# Altium schematic symbol library Sensor_Magnetic.SchLib: 49 symbols
Pins are listed as number, name and electrical type; pins without a type are passive.

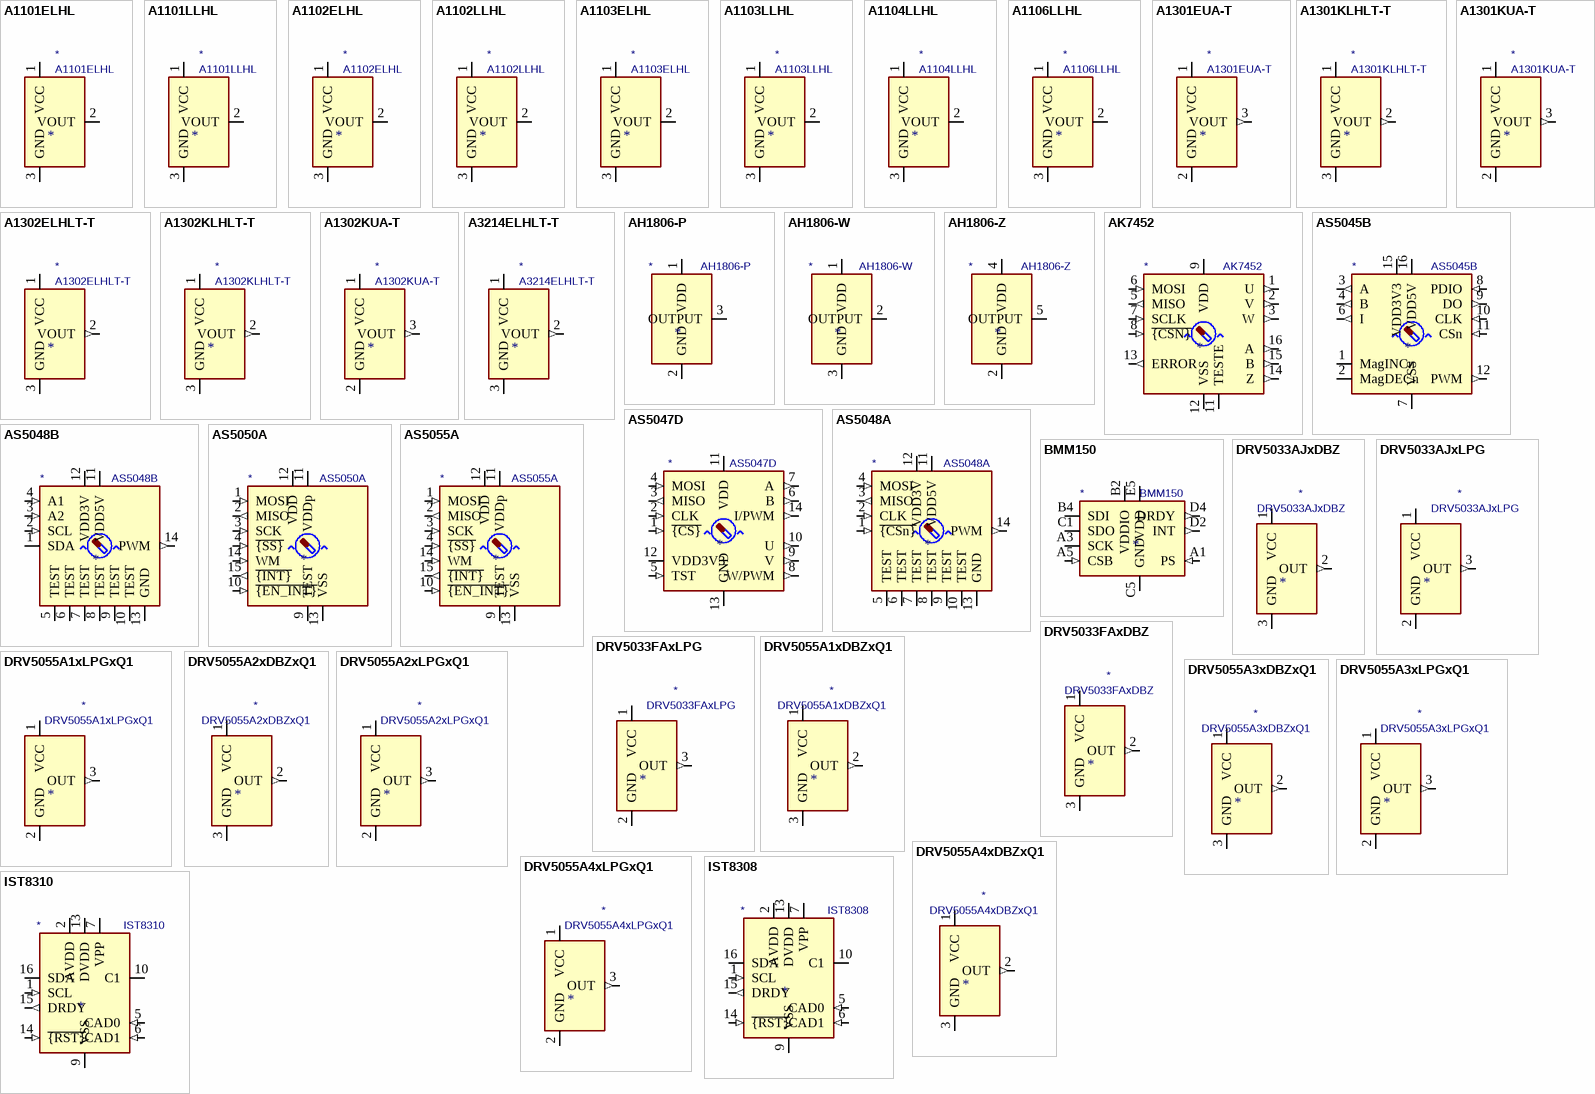
[diagram p0: symbols A1101ELHL to IST8310]

## A1101ELHL
designator *  value A1101ELHL
ki_keywords: hall switch; ki_description: Hall effect switch, unipolar, Bop=100G, Brp=45G, -40C to +85C, SOT-23W; ki_fp_filters: SOT?23*; Footprint: Package_TO_SOT_SMD:SOT-23W; Supplier: https://www.allegromicro.com/-/media/files/datasheets/a110x-datasheet.ashx
footprint SOT-23W
pins: 1 VCC (power), 2 VOUT (oc), 3 GND (power)

## A1101LLHL
designator *  value A1101LLHL
ki_keywords: hall switch; ki_description: Hall effect switch, unipolar, Bop=100G, Brp=45G, -40C to +125C, SOT-23W; ki_fp_filters: SOT?23*; Footprint: Package_TO_SOT_SMD:SOT-23W; Supplier: https://www.allegromicro.com/-/media/files/datasheets/a110x-datasheet.ashx
footprint SOT-23W
pins: 1 VCC (power), 2 VOUT (oc), 3 GND (power)

## A1102ELHL
designator *  value A1102ELHL
ki_keywords: hall switch; ki_description: Hall effect switch, unipolar, Bop=180G, Brp=125G, -40C to +85C, SOT-23W; ki_fp_filters: SOT?23*; Footprint: Package_TO_SOT_SMD:SOT-23W; Supplier: https://www.allegromicro.com/-/media/files/datasheets/a110x-datasheet.ashx
footprint SOT-23W
pins: 1 VCC (power), 2 VOUT (oc), 3 GND (power)

## A1102LLHL
designator *  value A1102LLHL
ki_keywords: hall switch; ki_description: Hall effect switch, unipolar, Bop=180G, Brp=125G, -40C to +125C, SOT-23W; ki_fp_filters: SOT?23*; Footprint: Package_TO_SOT_SMD:SOT-23W; Supplier: https://www.allegromicro.com/-/media/files/datasheets/a110x-datasheet.ashx
footprint SOT-23W
pins: 1 VCC (power), 2 VOUT (oc), 3 GND (power)

## A1103ELHL
designator *  value A1103ELHL
ki_keywords: hall switch; ki_description: Hall effect switch, unipolar, Bop=280G, Brp=225G, -40C to +85C, SOT-23W; ki_fp_filters: SOT?23*; Footprint: Package_TO_SOT_SMD:SOT-23W; Supplier: https://www.allegromicro.com/-/media/files/datasheets/a110x-datasheet.ashx
footprint SOT-23W
pins: 1 VCC (power), 2 VOUT (oc), 3 GND (power)

## A1103LLHL
designator *  value A1103LLHL
ki_keywords: hall switch; ki_description: Hall effect switch, unipolar, Bop=280G, Brp=225G, -40C to +125C, SOT-23W; ki_fp_filters: SOT?23*; Footprint: Package_TO_SOT_SMD:SOT-23W; Supplier: https://www.allegromicro.com/-/media/files/datasheets/a110x-datasheet.ashx
footprint SOT-23W
pins: 1 VCC (power), 2 VOUT (oc), 3 GND (power)

## A1104LLHL
designator *  value A1104LLHL
ki_keywords: hall switch; ki_description: Hall effect switch, unipolar, Bop=240G, Brp=200G, -40C to +125C, SOT-23W; ki_fp_filters: SOT?23*; Footprint: Package_TO_SOT_SMD:SOT-23W; Supplier: https://www.allegromicro.com/-/media/files/datasheets/a110x-datasheet.ashx
footprint SOT-23W
pins: 1 VCC (power), 2 VOUT (oc), 3 GND (power)

## A1106LLHL
designator *  value A1106LLHL
ki_keywords: hall switch; ki_description: Hall effect switch, unipolar, Bop=340G, Brp=240G, -40C to +125C, SOT-23W; ki_fp_filters: SOT?23*; Footprint: Package_TO_SOT_SMD:SOT-23W; Supplier: https://www.allegromicro.com/-/media/files/datasheets/a110x-datasheet.ashx
footprint SOT-23W
pins: 1 VCC (power), 2 VOUT (oc), 3 GND (power)

## A1301EUA-T
designator *  value A1301EUA-T
ki_keywords: hall switch; ki_description: Linear Hall Effect Sensor, SIP 3pin; Supplier: http://www.allegromicro.com/~/media/Files/Datasheets/A1301-2-Datasheet.ashx
pins: 1 VCC (power), 2 GND (power), 3 VOUT (out)

## A1301KLHLT-T
designator *  value A1301KLHLT-T
ki_keywords: hall switch; ki_description: Linear Hall Effect Sensor, SOT-23W; ki_fp_filters: SOT?23W*; Footprint: Package_TO_SOT_SMD:SOT-23W; Supplier: http://www.allegromicro.com/~/media/Files/Datasheets/A1301-2-Datasheet.ashx
footprint SOT-23W
pins: 1 VCC (power), 2 VOUT (out), 3 GND (power)

## A1301KUA-T
designator *  value A1301KUA-T
ki_keywords: hall switch; ki_description: Linear Hall Effect Sensor, SIP 3pin; Supplier: http://www.allegromicro.com/~/media/Files/Datasheets/A1301-2-Datasheet.ashx
pins: 1 VCC (power), 2 GND (power), 3 VOUT (out)

## A1302ELHLT-T
designator *  value A1302ELHLT-T
ki_keywords: hall switch; ki_description: Linear Hall Effect Sensor, SOT-23W; ki_fp_filters: SOT?23W*; Footprint: Package_TO_SOT_SMD:SOT-23W; Supplier: http://www.allegromicro.com/~/media/Files/Datasheets/A1301-2-Datasheet.ashx
footprint SOT-23W
pins: 1 VCC (power), 2 VOUT (out), 3 GND (power)

## A1302KLHLT-T
designator *  value A1302KLHLT-T
ki_keywords: hall switch; ki_description: Linear Hall Effect Sensor, SOT-23W; ki_fp_filters: SOT?23W*; Footprint: Package_TO_SOT_SMD:SOT-23W; Supplier: http://www.allegromicro.com/~/media/Files/Datasheets/A1301-2-Datasheet.ashx
footprint SOT-23W
pins: 1 VCC (power), 2 VOUT (out), 3 GND (power)

## A1302KUA-T
designator *  value A1302KUA-T
ki_keywords: hall switch; ki_description: Linear Hall Effect Sensor, SIP 3pin; Supplier: http://www.allegromicro.com/~/media/Files/Datasheets/A1301-2-Datasheet.ashx
pins: 1 VCC (power), 2 GND (power), 3 VOUT (out)

## A3214ELHLT-T
designator *  value A3214ELHLT-T
ki_keywords: hall switch; ki_description: Linear Hall Effect Sensor, SOT-23W; ki_fp_filters: SOT?23W*; Footprint: Package_TO_SOT_SMD:SOT-23W; Supplier: http://www.allegromicro.com/~/media/Files/Datasheets/A3213-4-Datasheet.ashx
footprint SOT-23W
pins: 1 VCC (power), 2 VOUT (out), 3 GND (power)

## AH1806-P
designator *  value AH1806-P
ki_keywords: hall switch; ki_description: High Sensitivity Micropower Omnipolar Hall-Effect Switch, SIP-3; ki_fp_filters: Diodes*SIP*4.1x1.5mm*P1.27mm* Diodes*SIP*4.1x1.5mm*P2.65mm*; Supplier: https://www.diodes.com/assets/Datasheets/AH1806.pdf
pins: 1 VDD (power), 2 GND (power), 3 OUTPUT (oc)

## AH1806-W
designator *  value AH1806-W
ki_keywords: hall switch; ki_description: High Sensitivity Micropower Omnipolar Hall-Effect Switch, SC-59; ki_fp_filters: SC?59*; Footprint: Package_TO_SOT_SMD:SC-59; Supplier: https://www.diodes.com/assets/Datasheets/AH1806.pdf
footprint SC-59
pins: 1 VDD (power), 2 OUTPUT (oc), 3 GND (power)

## AH1806-Z
designator *  value AH1806-Z
ki_keywords: hall switch; ki_description: High Sensitivity Micropower Omnipolar Hall-Effect Switch, SOT-553; ki_fp_filters: SOT*553*; Footprint: Package_TO_SOT_SMD:SOT-553; Supplier: https://www.diodes.com/assets/Datasheets/AH1806.pdf
footprint SOT-553
pins: 1 NC (in) hidden, 2 GND (power), 3 NC (in) hidden, 4 VDD (power), 5 OUTPUT (oc)

## AK7452
designator *  value AK7452
ki_keywords: sensor magnetic hall position rotation spi; ki_description: Magnetic rotary angle sensor, 14-bit, SPI interface, ABZ, UVW, TSSOP-16; ki_fp_filters: TSSOP*4.4x5mm*P0.65mm*; Footprint: Package_SO:TSSOP-16_4.4x5mm_P0.65mm; Supplier: https://www.akm.com/akm/en/file/datasheet/AK7452.pdf
footprint TSSOP-16_4.4x5mm_P0.65mm
pins: 1 U (out), 2 V (out), 3 W (out), 4 NC (in) hidden, 5 MISO (out), 6 MOSI (in), 7 SCLK (in), 8 ~{{CSN}} (in), 9 VDD (power), 10 NC (in) hidden, 11 TESTE, 12 VSS (power), 13 ERROR (out), 14 Z (out), 15 B (out), 16 A (out)

## AS5045B
designator *  value AS5045B
ki_keywords: Magnetic Hall Encoder; ki_description: Magnetic Position Sensor, 12-bit, PWM Output, ABI Output, SPI Interface, SSOP-16; ki_fp_filters: SSOP*5.3x6.2mm*P0.65mm*; Footprint: Package_SO:SSOP-16_5.3x6.2mm_P0.65mm; Supplier: https://ams.com/documents/20143/36005/AS5045B_DS000397_2-00.pdf
footprint SSOP-16_5.3x6.2mm_P0.65mm
pins: 1 MagINCn (oc), 2 MagDECn (oc), 3 A (out), 4 B (out), 5 NC (in) hidden, 6 I (out), 7 VSS (power), 8 PDIO (in), 9 DO (out), 10 CLK (in), 11 CSn (in), 12 PWM (out), 13 NC (in) hidden, 14 NC (in) hidden, 15 VDD3V3 (power), 16 VDD5V (power)

## AS5047D
designator *  value AS5047D
ki_keywords: Magnetic Hall Sensor; ki_description: On-Axis Magnetic Position Sensor, 14-bit, PWM Output, ABI Output, UVW Output, SPI Interface, TSSOP-14; ki_fp_filters: TSSOP*4.4x5mm*P0.65mm*; Footprint: Package_SO:TSSOP-14_4.4x5mm_P0.65mm; Supplier: https://ams.com/documents/20143/36005/AS5047D_DS000394_2-00.pdf
footprint TSSOP-14_4.4x5mm_P0.65mm
pins: 1 ~{{CS}} (in), 2 CLK (in), 3 MISO (out), 4 MOSI (in), 5 TST (in), 6 B (out), 7 A (out), 8 W/PWM (out), 9 V (out), 10 U (out), 11 VDD (power), 12 VDD3V3 (power), 13 GND (power), 14 I/PWM (out)

## AS5048A
designator *  value AS5048A
ki_keywords: sensor magnetic hall position rotation spi; ki_description: Magnetic position sensor, 14-bit, PWM output, SPI Interface, TSSOP-14; ki_fp_filters: TSSOP*4.4x5mm*P0.65mm*; Footprint: Package_SO:TSSOP-14_4.4x5mm_P0.65mm; Supplier: https://ams.com/documents/20143/36005/AS5048_DS000298_4-00.pdf
footprint TSSOP-14_4.4x5mm_P0.65mm
pins: 1 ~{{CSn}} (in), 2 CLK (in), 3 MISO (out), 4 MOSI (in), 5 TEST, 6 TEST, 7 TEST, 8 TEST, 9 TEST, 10 TEST, 11 VDD5V (power), 12 VDD3V (power), 13 GND (power), 14 PWM (out)

## AS5048B
designator *  value AS5048B
ki_keywords: sensor magnetic hall position rotation i2c; ki_description: Magnetic position sensor, 14-bit, PWM output, I2C Interface, TSSOP-14; ki_fp_filters: TSSOP*4.4x5mm*P0.65mm*; Footprint: Package_SO:TSSOP-14_4.4x5mm_P0.65mm; Supplier: https://ams.com/documents/20143/36005/AS5048_DS000298_4-00.pdf
footprint TSSOP-14_4.4x5mm_P0.65mm
pins: 1 SDA (io), 2 SCL (in), 3 A2 (in), 4 A1 (in), 5 TEST, 6 TEST, 7 TEST, 8 TEST, 9 TEST, 10 TEST, 11 VDD5V (power), 12 VDD3V (power), 13 GND (power), 14 PWM (out)

## AS5050A
designator *  value AS5050A
ki_keywords: sensor magnetic hall position rotation spi; ki_description: Magnetic position sensor, 10-bit, SPI interface, QFN-16; ki_fp_filters: QFN*1EP*4x4mm*P0.65mm*PullBack*; Footprint: Package_DFN_QFN:QFN-16-1EP_4x4mm_P0.65mm_EP2.7x2.7mm_PullBack; Supplier: https://ams.com/documents/20143/36005/AS5055A_DS000304_2-00.pdf
footprint QFN-16-1EP_4x4mm_P0.65mm_EP2.7x2.7mm_PullBack
pins: 1 MOSI (in), 2 MISO (out), 3 SCK (in), 4 ~{{SS}} (in), 5 NC (in) hidden, 6 NC (in) hidden, 7 NC (in) hidden, 8 NC (in) hidden, 9 TEST, 10 ~{{EN_INT}} (in), 11 VDDp (power), 12 VDD (power), 13 VSS (power), 14 WM (in), 15 ~{{INT}} (out), 16 NC (in) hidden, 17 NC (in) hidden

## AS5055A
designator *  value AS5055A
ki_keywords: sensor magnetic hall position rotation spi; ki_description: Magnetic position sensor, 12-bit, SPI interface, QFN-16; ki_fp_filters: QFN*1EP*4x4mm*P0.65mm*PullBack*; Footprint: Package_DFN_QFN:QFN-16-1EP_4x4mm_P0.65mm_EP2.7x2.7mm_PullBack; Supplier: https://ams.com/documents/20143/36005/AS5055A_DS000304_2-00.pdf
footprint QFN-16-1EP_4x4mm_P0.65mm_EP2.7x2.7mm_PullBack
pins: 1 MOSI (in), 2 MISO (out), 3 SCK (in), 4 ~{{SS}} (in), 5 NC (in) hidden, 6 NC (in) hidden, 7 NC (in) hidden, 8 NC (in) hidden, 9 TEST, 10 ~{{EN_INT}} (in), 11 VDDp (power), 12 VDD (power), 13 VSS (power), 14 WM (in), 15 ~{{INT}} (out), 16 NC (in) hidden, 17 NC (in) hidden

## BMM150
designator *  value BMM150
ki_keywords: BOSH Geomagnetic Sensor; ki_description: Geomagnetic Sensor, WLCSP-12; ki_fp_filters: WLCSP*1.56x1.56mm*P0.4mm*; Footprint: Package_CSP:WLCSP-12_1.56x1.56mm_P0.4mm; Supplier: https://www.mouser.com/datasheet/2/783/BST-BMM150-DS001-01-786480.pdf
footprint WLCSP-12_1.56x1.56mm_P0.4mm
pins: A1 PS (in), A3 SCK (io), A5 CSB (in), B2 VDDIO (power), B4 SDI (io), C1 SDO (io), C5 GND (power), D2 INT (out), D4 DRDY (out), E1 GND hidden, E3 GND hidden, E5 VDD (power)

## DRV5033AJxDBZ
designator *  value DRV5033AJxDBZ
ki_keywords: Digital Omnipolar Switch Hall Effect Sensor; ki_description: ±6.9 / ±3.5 mT, 20-kHz, 2-38V, SOT-23; ki_fp_filters: SOT?23*; Footprint: Package_TO_SOT_SMD:SOT-23; Supplier: https://www.ti.com/lit/ds/symlink/drv5033.pdf
footprint SOT-23
pins: 1 VCC (power), 2 OUT (out), 3 GND (power)

## DRV5033AJxLPG
designator *  value DRV5033AJxLPG
ki_keywords: Digital Omnipolar Switch Hall Effect Sensor; ki_description: ±6.9 / ±3.5 mT, 20-kHz, 2-38V, TO-92; ki_fp_filters: TO?92*; Footprint: Package_TO_SOT_THT:TO-92_Inline; Supplier: https://www.ti.com/lit/ds/symlink/drv5033.pdf
footprint TO-92_Inline
pins: 1 VCC (power), 2 GND (power), 3 OUT (out)

## DRV5033FAxDBZ
designator *  value DRV5033FAxDBZ
ki_keywords: Digital Omnipolar Switch Hall Effect Sensor; ki_description: ±3.5 / ±2 mT, 20-kHz, 2-38V, SOT-23; ki_fp_filters: SOT?23*; Footprint: Package_TO_SOT_SMD:SOT-23; Supplier: https://www.ti.com/lit/ds/symlink/drv5033.pdf
footprint SOT-23
pins: 1 VCC (power), 2 OUT (out), 3 GND (power)

## DRV5033FAxLPG
designator *  value DRV5033FAxLPG
ki_keywords: Digital Omnipolar Switch Hall Effect Sensor; ki_description: ±3.5 / ±2 mT, 20-kHz, 2-38V, TO-92; ki_fp_filters: TO?92*; Footprint: Package_TO_SOT_THT:TO-92_Inline; Supplier: https://www.ti.com/lit/ds/symlink/drv5033.pdf
footprint TO-92_Inline
pins: 1 VCC (power), 2 GND (power), 3 OUT (out)

## DRV5055A1xDBZxQ1
designator *  value DRV5055A1xDBZxQ1
ki_keywords: Automotive Ratiometric Linear Hall Effect Sensor AEC-Q100; ki_description: 100 mV/mT,±21-mT, 20-kHz, 3.3/5V, SOT-23; ki_fp_filters: SOT?23*; Footprint: Package_TO_SOT_SMD:SOT-23; Supplier: https://www.ti.com/lit/ds/symlink/drv5055-q1.pdf
footprint SOT-23
pins: 1 VCC (power), 2 OUT (out), 3 GND (power)

## DRV5055A1xLPGxQ1
designator *  value DRV5055A1xLPGxQ1
ki_keywords: Automotive Ratiometric Linear Hall Effect Sensor AEC-Q100; ki_description: 100 mV/mT,±21-mT, 20-kHz, 3.3/5V, TO-92; ki_fp_filters: TO?92*; Footprint: Package_TO_SOT_THT:TO-92_Inline; Supplier: https://www.ti.com/lit/ds/symlink/drv5055-q1.pdf
footprint TO-92_Inline
pins: 1 VCC (power), 2 GND (power), 3 OUT (out)

## DRV5055A2xDBZxQ1
designator *  value DRV5055A2xDBZxQ1
ki_keywords: Automotive Ratiometric Linear Hall Effect Sensor AEC-Q100; ki_description: 50 mV/mT,±42-mT, 20-kHz, 3.3/5V, SOT-23; ki_fp_filters: SOT?23*; Footprint: Package_TO_SOT_SMD:SOT-23; Supplier: https://www.ti.com/lit/ds/symlink/drv5055-q1.pdf
footprint SOT-23
pins: 1 VCC (power), 2 OUT (out), 3 GND (power)

## DRV5055A2xLPGxQ1
designator *  value DRV5055A2xLPGxQ1
ki_keywords: Automotive Ratiometric Linear Hall Effect Sensor AEC-Q100; ki_description: 50 mV/mT,±42-mT, 20-kHz, 3.3/5V, TO-92; ki_fp_filters: TO?92*; Footprint: Package_TO_SOT_THT:TO-92_Inline; Supplier: https://www.ti.com/lit/ds/symlink/drv5055-q1.pdf
footprint TO-92_Inline
pins: 1 VCC (power), 2 GND (power), 3 OUT (out)

## DRV5055A3xDBZxQ1
designator *  value DRV5055A3xDBZxQ1
ki_keywords: Automotive Ratiometric Linear Hall Effect Sensor AEC-Q100; ki_description: 25 mV/mT,±85-mT, 20-kHz, 3.3/5V, SOT-23; ki_fp_filters: SOT?23*; Footprint: Package_TO_SOT_SMD:SOT-23; Supplier: https://www.ti.com/lit/ds/symlink/drv5055-q1.pdf
footprint SOT-23
pins: 1 VCC (power), 2 OUT (out), 3 GND (power)

## DRV5055A3xLPGxQ1
designator *  value DRV5055A3xLPGxQ1
ki_keywords: Automotive Ratiometric Linear Hall Effect Sensor AEC-Q100; ki_description: 25 mV/mT,±85-mT, 20-kHz, 3.3/5V, TO-92; ki_fp_filters: TO?92*; Footprint: Package_TO_SOT_THT:TO-92_Inline; Supplier: https://www.ti.com/lit/ds/symlink/drv5055-q1.pdf
footprint TO-92_Inline
pins: 1 VCC (power), 2 GND (power), 3 OUT (out)

## DRV5055A4xDBZxQ1
designator *  value DRV5055A4xDBZxQ1
ki_keywords: Automotive Ratiometric Linear Hall Effect Sensor AEC-Q100; ki_description: 12.5 mV/mT,±169-mT, 20-kHz, 3.3/5V, SOT-23; ki_fp_filters: SOT?23*; Footprint: Package_TO_SOT_SMD:SOT-23; Supplier: https://www.ti.com/lit/ds/symlink/drv5055-q1.pdf
footprint SOT-23
pins: 1 VCC (power), 2 OUT (out), 3 GND (power)

## DRV5055A4xLPGxQ1
designator *  value DRV5055A4xLPGxQ1
ki_keywords: Automotive Ratiometric Linear Hall Effect Sensor AEC-Q100; ki_description: 12.5mV/mT,±169-mT, 20-kHz, 3.3/5V, TO-92; ki_fp_filters: TO?92*; Footprint: Package_TO_SOT_THT:TO-92_Inline; Supplier: https://www.ti.com/lit/ds/symlink/drv5055-q1.pdf
footprint TO-92_Inline
pins: 1 VCC (power), 2 GND (power), 3 OUT (out)

## IST8308
designator *  value IST8308
ki_keywords: magnet field sensor compass; ki_description: 3D Magnetometer, High Sensitivity, I2C Interface, LGA-16; ki_fp_filters: LGA*3x3mm*P0.5mm*; Footprint: Package_LGA:LGA-16_3x3mm_P0.5mm; Supplier: http://www.isentek.com/en/dlf.php?file=../ISENTEK/(201703-20)IST8308%20Datasheet%20v1.0_brief.pdf
footprint LGA-16_3x3mm_P0.5mm
pins: 1 SCL (in), 2 AVDD (power), 3 NC (in) hidden, 4 NC (in) hidden, 5 CAD0 (in), 6 CAD1 (in), 7 VPP, 8 NC (in) hidden, 9 VSS (power), 10 C1, 11 VSS hidden, 12 NC (in) hidden, 13 DVDD (power), 14 ~{{RST}} (in), 15 DRDY (out), 16 SDA (io)

## IST8310
designator *  value IST8310
ki_keywords: magnet field sensor compass; ki_description: 3D Magnetometer, I2C Interface, LGA-16; ki_fp_filters: LGA*3x3mm*P0.5mm*; Footprint: Package_LGA:LGA-16_3x3mm_P0.5mm; Supplier: http://www.isentek.com/en/dlf.php?file=../ISENTEK/(201703-09)IST8310%20Datasheet%20v1.2_brief-105.09.20.pdf
footprint LGA-16_3x3mm_P0.5mm
pins: 1 SCL (in), 2 AVDD (power), 3 NC (in) hidden, 4 NC (in) hidden, 5 CAD0 (in), 6 CAD1 (in), 7 VPP, 8 NC (in) hidden, 9 VSS (power), 10 C1, 11 VSS hidden, 12 NC (in) hidden, 13 DVDD (power), 14 ~{{RST}} (in), 15 DRDY (out), 16 SDA (io)

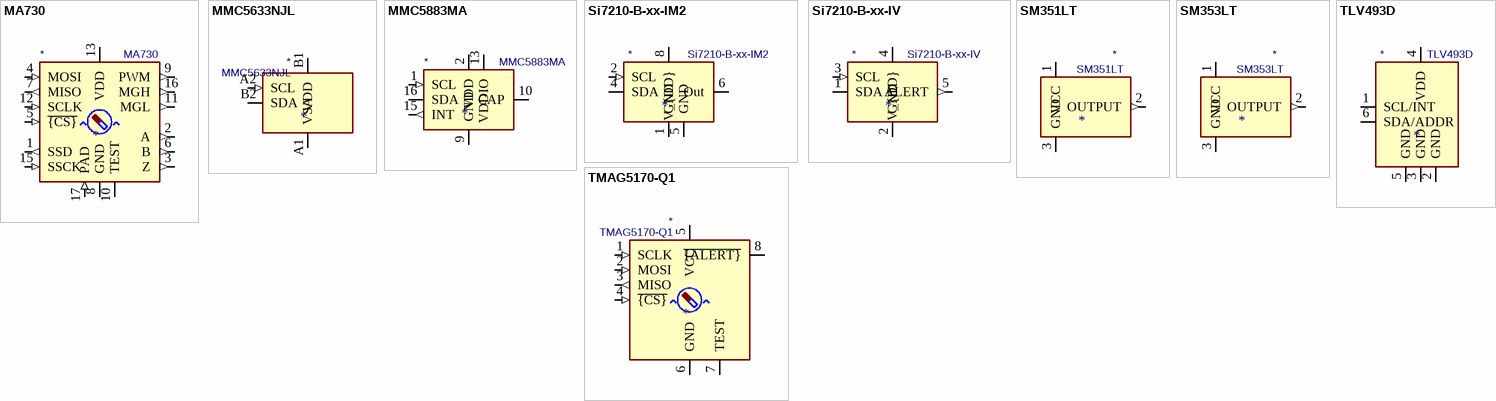
[diagram p1: symbols MA730 to TMAG5170-Q1]

## MA730
designator *  value MA730
ki_keywords: sensor magnetic hall position rotation spi; ki_description: Magnetic rotary angle sensor, 14-bit, SPI interface, ABZ, PWM, QFN-16; ki_fp_filters: QFN*3x3mm*P0.5mm*EP1.8x1.8mm*; Footprint: Package_DFN_QFN:QFN-16-1EP_3x3mm_P0.5mm_EP1.8x1.8mm; Supplier: https://www.monolithicpower.com/pub/media/document/m/a/ma730_r1.01.pdf
footprint QFN-16-1EP_3x3mm_P0.5mm_EP1.8x1.8mm
pins: 1 SSD (out), 2 A (out), 3 Z (out), 4 MOSI (in), 5 ~{{CS}} (in), 6 B (out), 7 MISO (out), 8 GND (power), 9 PWM (out), 10 TEST, 11 MGL (out), 12 SCLK (in), 13 VDD (power), 14 NC (in) hidden, 15 SSCK (in), 16 MGH (out), 17 PAD (in)

## MMC5633NJL
designator *  value MMC5633NJL
ki_keywords: I2C I3C magnetic 3-axis sensor magnetometer AMR magnetoresistance; ki_description: 3-axis AMR Magnetometer, 30 G, I2C & I3C  Interface, 2mG RMS, WLP-4; ki_fp_filters: WLP*0.86x0.86mm?P0.4mm*; Footprint: Package_BGA:WLP-4_0.86x0.86mm_P0.4mm; Supplier: http://www.memsic.com/uploadfiles/2020/08/20200827165106864.pdf
footprint WLP-4_0.86x0.86mm_P0.4mm
pins: A1 VSA (power), A2 SCL (in), B1 VDD (power), B2 SDA (io)

## MMC5883MA
designator *  value MMC5883MA
ki_keywords: I2C magnetic 3-axis sensor; ki_description: 3-axis Magnetic Sensor, I2C Interface, LGA-16; ki_fp_filters: *LGA*3x3mm*P0.5mm*; Footprint: Package_LGA:LGA-16_3x3mm_P0.5mm; Supplier: http://www.memsic.com/userfiles/files/DataSheets/Magnetic-Sensors-Datasheets/MMC5883MA-RevC.pdf
footprint LGA-16_3x3mm_P0.5mm
pins: 1 SCL (in), 2 VDD (power), 3 NC (in) hidden, 4 NC (in) hidden, 5 NC (in) hidden, 6 NC (in) hidden, 7 NC (in) hidden, 8 NC (in) hidden, 9 GND (power), 10 CAP, 11 GND hidden, 12 NC (in) hidden, 13 VDDIO (power), 14 NC (in) hidden, 15 INT (out), 16 SDA (io)

## Si7210-B-xx-IM2
designator *  value Si7210-B-xx-IM2
ki_keywords: I2C hall effect magnetic postition temperature sensor; ki_description: I2C Hall Effect Magnetic Position and Temperature Sensor, TDFN-8; ki_fp_filters: TDFN-8*1.4x1.6mm*P0.4mm*; Footprint: Package_DFN_QFN:TDFN-8_1.4x1.6mm_P0.4mm; Supplier: https://www.silabs.com/documents/public/data-sheets/si7210-datasheet.pdf
footprint TDFN-8_1.4x1.6mm_P0.4mm
pins: 1 GND (power), 2 SCL (in), 4 SDA (io), 5 GND (power), 6 Out (io), 8 V_{DD} (power)

## Si7210-B-xx-IV
designator *  value Si7210-B-xx-IV
ki_keywords: I2C hall effect magnetic postition temperature sensor; ki_description: I2C Hall Effect Magnetic Position and Temperature Sensor, SOT-23-5; ki_fp_filters: SOT-23-5*; Footprint: Package_TO_SOT_SMD:SOT-23-5; Supplier: https://www.silabs.com/documents/public/data-sheets/si7210-datasheet.pdf
footprint SOT-23-5
pins: 1 SDA (io), 2 GND (power), 3 SCL (in), 4 V_{DD} (power), 5 ALERT (out)

## SM351LT
designator *  value SM351LT
ki_keywords: Hall Effect Switch Sensor; ki_description: Hall Effect Switch, SOT-23; ki_fp_filters: SOT?23*; Footprint: Package_TO_SOT_SMD:SOT-23; Supplier: https://sensing.honeywell.com/honeywell-sensing-nanopower-series-product-sheet-50095501-a-en.pdf
footprint SOT-23
pins: 1 VCC (power), 2 OUTPUT (out), 3 GND (power)

## SM353LT
designator *  value SM353LT
ki_keywords: Hall Effect Switch Sensor; ki_description: Hall Effect Switch, SOT-23; ki_fp_filters: SOT?23*; Footprint: Package_TO_SOT_SMD:SOT-23; Supplier: https://sensing.honeywell.com/honeywell-sensing-nanopower-series-product-sheet-50095501-a-en.pdf
footprint SOT-23
pins: 1 VCC (power), 2 OUTPUT (out), 3 GND (power)

## TLV493D
designator *  value TLV493D
ki_keywords: magnetic field i2c; ki_description: Low power 3D magnetic sensor, I2C interface, SOT-23-6; ki_fp_filters: SOT?23*; Footprint: Package_TO_SOT_SMD:SOT-23-6; Supplier: http://www.infineon.com/dgdl/Infineon-TLV493D-A1B6-DS-v01_00-EN.pdf?fileId=5546d462525dbac40152a6b85c760e80
footprint SOT-23-6
pins: 1 SCL/INT (io), 2 GND (power), 3 GND (power), 4 VDD (power), 5 GND (power), 6 SDA/ADDR (io)

## TMAG5170-Q1
designator *  value TMAG5170-Q1
ki_keywords: sensor magnetic hall position rotation spi; ki_description: Magnetic 3-axis linear sensor, 12-bit, Automotive, SPI Interface, VSSOP-8; ki_fp_filters: VSSOP*3.0x3.0mm*P0.65mm*; Footprint: Package_SO:VSSOP-8_3.0x3.0mm_P0.65mm; Supplier: https://www.ti.com/lit/ds/symlink/tmag5170-q1.pdf
footprint VSSOP-8_3.0x3.0mm_P0.65mm
pins: 1 SCLK (in), 2 MOSI (in), 3 MISO (out), 4 ~{{CS}} (in), 5 VCC (power), 6 GND (power), 7 TEST, 8 ~{{ALERT}} (io)